# Altium schematic symbol library IC-Logic.SCHLIB: 31 symbols
Pins are listed as number, name and electrical type; pins without a type are passive.

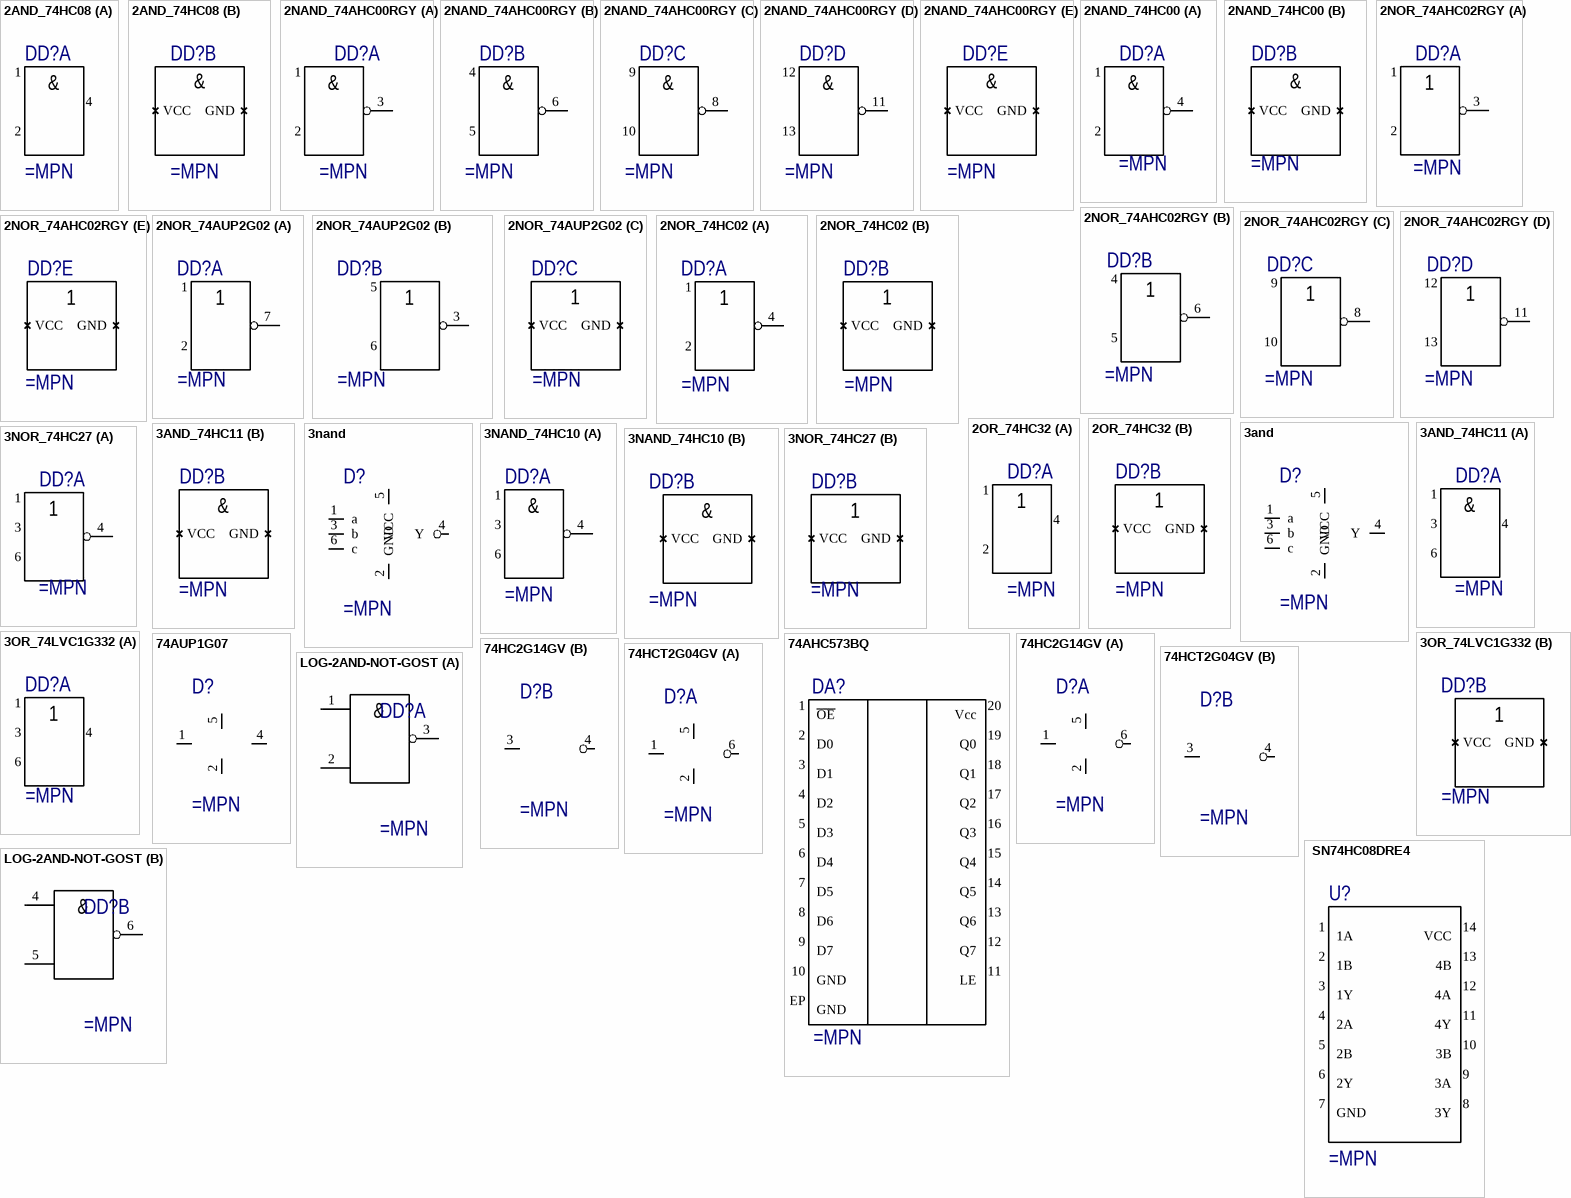
[diagram p0: symbols 2AND_74HC08 to LOG-2AND-NOT-GOST]

## 2AND_74HC08
designator DD?
part A pins: 1, 2, 4
part B pins: 3 GND, 5 VCC
part A text: &
part B text: &

## 2NAND_74AHC00RGY
designator DD?
part A pins: 1, 2, 3
part B pins: 4, 5, 6
part C pins: 8, 9, 10
part D pins: 11, 12, 13
part E pins: 7 GND, 14 VCC
part A text: &
part B text: &
part C text: &
part D text: &
part E text: &

## 2NAND_74HC00
designator DD?
part A pins: 1, 2, 4
part B pins: 3 GND, 5 VCC
part A text: &
part B text: &

## 2NOR_74AHC02RGY
designator DD?
part A pins: 1, 2, 3
part B pins: 4, 5, 6
part C pins: 8, 9, 10
part D pins: 11, 12, 13
part E pins: 7 GND, 14 VCC

## 2NOR_74AUP2G02
designator DD?
footprint VSSOP8 (74AUP2G02DC, SOT765-1, TSSOP, 8-Leads, Body 2,10x2,40mm, Pitch 0,50mm, IPC Medium Density)
part A pins: 1, 2, 7
part B pins: 3, 5, 6
part C pins: 4 GND, 8 VCC

## 2NOR_74HC02
designator DD?
part A pins: 1, 2, 4
part B pins: 3 GND, 5 VCC

## 2OR_74HC32
designator DD?
part A pins: 1, 2, 4
part B pins: 3 GND, 5 VCC

## 3and
designator D?
pins: 1 a, 2 GND, 3 b, 4 Y, 5 VCC, 6 c

## 3AND_74HC11
designator DD?
part A pins: 1, 3, 4, 6
part B pins: 2 GND, 5 VCC
part A text: &
part B text: &

## 3nand
designator D?
footprint SOT23-6 (SOT23, 6-Leads, IPC Medium Density)
pins: 1 a, 2 GND, 3 b, 4 Y, 5 VCC, 6 c

## 3NAND_74HC10
designator DD?
part A pins: 1, 3, 4, 6
part B pins: 2 GND, 5 VCC
part A text: &
part B text: &

## 3NOR_74HC27
designator DD?
part A pins: 1, 3, 4, 6
part B pins: 2 GND, 5 VCC

## 3OR_74LVC1G332
designator DD?
part A pins: 1, 3, 4, 6
part B pins: 2 GND, 5 VCC

## 74AHC573BQ
designator DA?
pins: 1 ~{OE}, 2 D0, 3 D1, 4 D2, 5 D3, 6 D4, 7 D5, 8 D6, 9 D7, 10 GND, 11 LE, 12 Q7, 13 Q6, 14 Q5, 15 Q4, 16 Q3, 17 Q2, 18 Q1, 19 Q0, 20 Vcc, EP GND

## 74AUP1G07
designator D?
pins: 1 In, 2 GND, 4 OUT, 5 VCC

## 74HC2G14GV
designator D?
part A pins: 1 In, 2 GND, 5 VCC, 6 OUT1
part B pins: 3 In, 4 OUT1

## 74HCT2G04GV
designator D?
part A pins: 1 In, 2 GND, 5 VCC, 6 OUT1
part B pins: 3 In, 4 OUT1

##  SN74HC08DRE4
designator U?
Imported
pins: 1 1A, 2 1B, 3 1Y, 4 2A, 5 2B, 6 2Y, 7 GND, 8 3Y, 9 3A, 10 3B, 11 4Y, 12 4A, 13 4B, 14 VCC

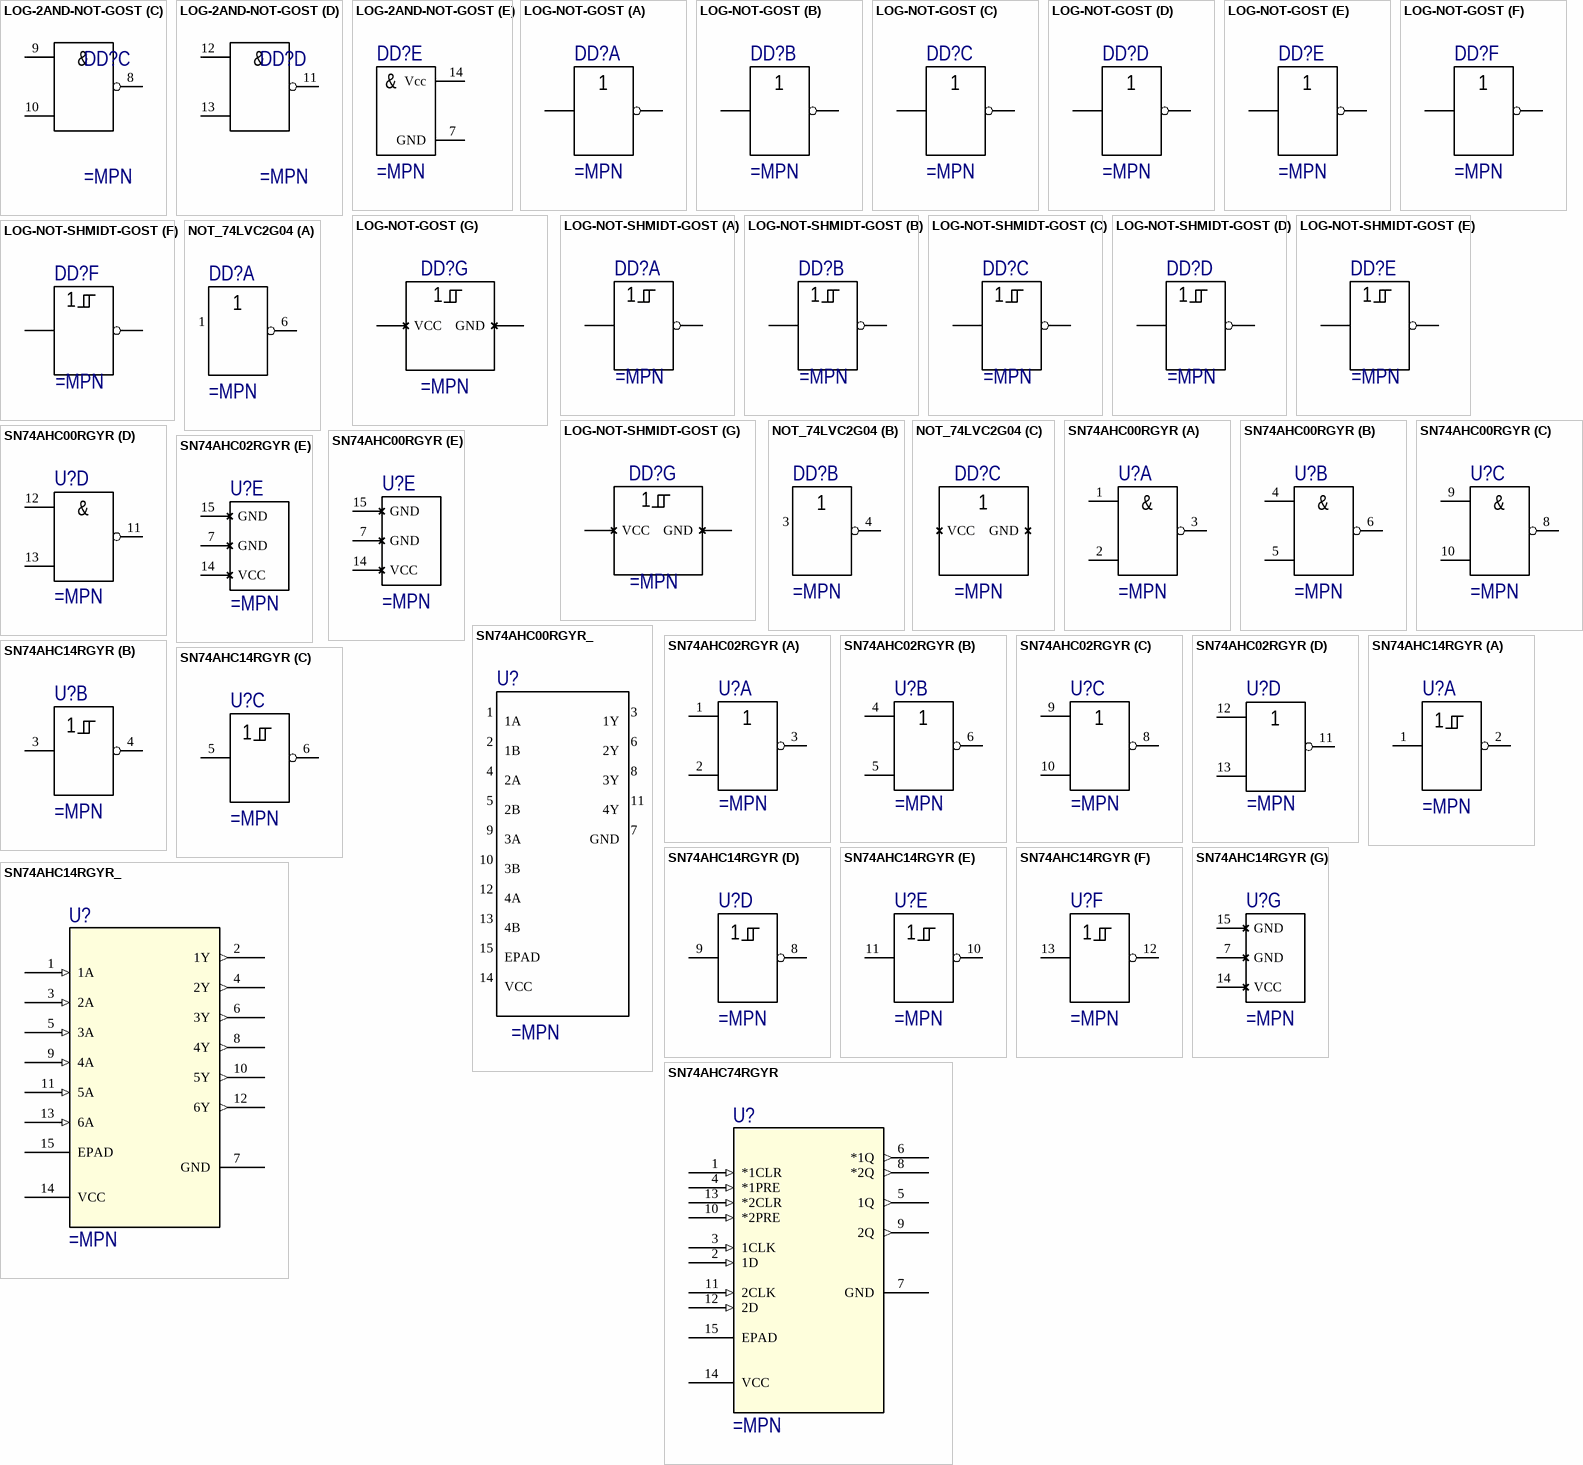
[diagram p1: symbols LOG-2AND-NOT-GOST to SN74AHC74RGYR]

## LOG-2AND-NOT-GOST
designator DD?
part A pins: 1, 2, 3
part B pins: 4, 5, 6
part C pins: 8, 9, 10
part D pins: 11, 12, 13
part E pins: 7 GND (power), 14 Vcc
part A text: &
part B text: &
part C text: &
part D text: &
part E text: &

## LOG-NOT-GOST
designator DD?
part A pins: I4 7, O4 8
part B pins: I1 1, O1 2
part C pins: I5 9, O5 10
part D pins: I6 11, O6 12
part E pins: I2 3, O2 4
part F pins: I3 5, O3 6
part G pins: 7 GND, 14 VCC

## LOG-NOT-SHMIDT-GOST
designator DD?
part A pins: I4 7, O4 8
part B pins: I1 1, O1 2
part C pins: I5 9, O5 10
part D pins: I6 11, O6 12
part E pins: I2 3, O2 4
part F pins: I3 5, O3 6
part G pins: 7 GND, 14 VCC

## NOT_74LVC2G04
designator DD?
part A pins: 1, 6
part B pins: 3, 4
part C pins: 2 GND, 5 VCC

## SN74AHC00RGYR
designator U?
Imported
footprint RGY14_2P05X2P05
part A pins: 1, 2, 3
part B pins: 4, 5, 6
part C pins: 8, 9, 10
part D pins: 11, 12, 13
part E pins: 7 GND, 14 VCC, 15 GND
part A text: &
part B text: &
part C text: &
part D text: &

## SN74AHC00RGYR_
designator U?
Imported
pins: 1 1A, 2 1B, 3 1Y, 4 2A, 5 2B, 6 2Y, 7 GND, 8 3Y, 9 3A, 10 3B, 11 4Y, 12 4A, 13 4B, 14 VCC, 15 EPAD

## SN74AHC02RGYR
designator U?
Imported
part A pins: 1, 2, 3
part B pins: 4, 5, 6
part C pins: 8, 9, 10
part D pins: 11, 12, 13
part E pins: 7 GND, 14 VCC, 15 GND

## SN74AHC14RGYR
designator U?
Imported
part A pins: 1, 2
part B pins: 3, 4
part C pins: 5, 6
part D pins: 8, 9
part E pins: 10, 11
part F pins: 12, 13
part G pins: 7 GND, 14 VCC, 15 GND

## SN74AHC14RGYR_
designator U?
Imported
pins: 1 1A (in), 2 1Y (out), 3 2A (in), 4 2Y (out), 5 3A (in), 6 3Y (out), 7 GND (power), 8 4Y (out), 9 4A (in), 10 5Y (out), 11 5A (in), 12 6Y (out), 13 6A (in), 14 VCC (power), 15 EPAD

## SN74AHC74RGYR
designator U?
Imported
pins: 1 *1CLR (in), 2 1D (in), 3 1CLK (in), 4 *1PRE (in), 5 1Q (out), 6 *1Q (out), 7 GND (power), 8 *2Q (out), 9 2Q (out), 10 *2PRE (in), 11 2CLK (in), 12 2D (in), 13 *2CLR (in), 14 VCC (power), 15 EPAD

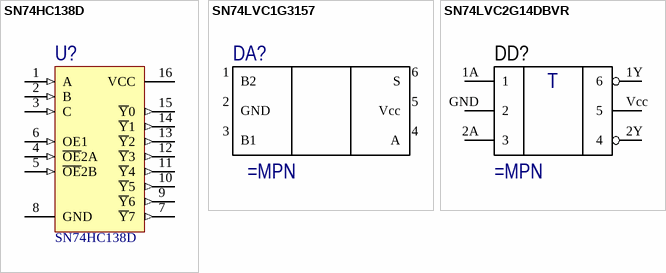
[diagram p2: symbols SN74HC138D to SN74LVC2G14DBVR]

## SN74HC138D
designator U?
3-Line to 8-Line Decoder / Demultiplexer; ComponentLink1Description: Manufacturer Link; ComponentLink1URL: http://www.ti.com/; ComponentLink2Description: Datasheet; ComponentLink2URL: http://www-s.ti.com/sc/ds/sn74hc138.pdf
pins: 1 A (in), 2 B (in), 3 C (in), 4 ~{OE}2A (in), 5 ~{OE}2B (in), 6 OE1 (in), 7 ~{Y}7 (out), 8 GND (power), 9 ~{Y}6 (out), 10 ~{Y}5 (out), 11 ~{Y}4 (out), 12 ~{Y}3 (out), 13 ~{Y}2 (out), 14 ~{Y}1 (out), 15 ~{Y}0 (out), 16 VCC (power)

## SN74LVC1G3157
designator DA?
pins: 1 B2, 2 GND, 3 B1, 4 A, 5 Vcc, 6 S

## SN74LVC2G14DBVR
designator DD?
pins: 1A 1, 1Y 6, 2A 3, 2Y 4, GND 2, Vcc 5
text: T